# Altium schematic symbol library NewSpeedRadar_Board.SCHLIB: 94 symbols
Pins are listed as number, name and electrical type; pins without a type are passive.

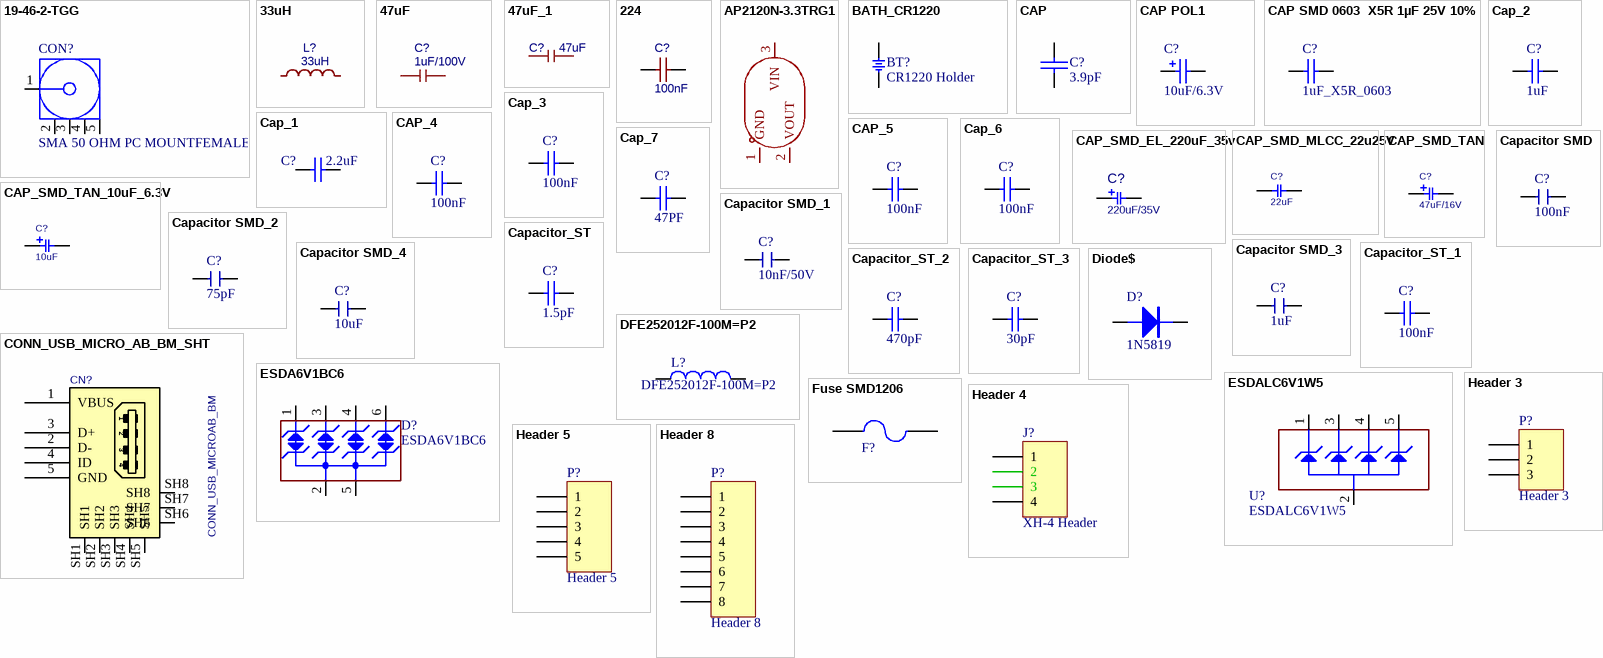
[diagram p0: symbols 19-46-2-TGG to Header 8]

## 19-46-2-TGG
designator CON?, comment SMA 50 OHM PC MOUNTFEMALE
CONN SMA JACK STR 50 OHM PCB; Manufacturer: Amphenol Connex; PartNumber: 132134; Foot print: Through Hole; Published: 12-Dec-2006; DatasheetVersion: rev.A-0, Jul-2002; PackageVersion: rev.A-0, Jul-2002; PackageReference: 19-46-2; Publisher: Altium Limited; PackageDescription: SMA Straight PCB Surface Mount Jack Receptacle; ComponentLink1Description: Manufacturer Link; ComponentLink1URL: http://www.chinnan.com.tw/
signal-integrity model RF Coaxial
footprint SMA
pins: 1 Signal "Signal Pin", 2 GND (power), 3 GND (power), 4 GND (power), 5 GND (power)

## 33uH
designator L?
Manufacturer: SHOU HAN(首韩); Manufacturer Part: CYH125-33UH; nameAlias: Inductance; Contributor: lcsc; Supplier: LCSC; Supplier Part: C2879698; JLCPCB Part Class: Extended Part; spicePre: L; spiceSymbolName: CYH125-33UH
footprint IND-SMD_L12.3-W12.3
pins: 1, 2

## 47uF
designator C?, comment 1uF/100V
Manufacturer Part: GRM32ER71A476ME15L; catid: 20; spicePre: C
footprint C1210
pins: 1, 2

## 47uF_1
designator C?, comment 47uF
Manufacturer Part: GRM32ER71A476ME15L; catid: 20; spicePre: C
footprint C1210
pins: 1, 2

## 224
designator C?, comment 100nF
Manufacturer: FH; Manufacturer Part: 0805F224M500NT; nameAlias: Capacitance; Supplier: LCSC; Supplier Part: C41051; JLCPCB Part Class: Extended Part; spicePre: C; spiceSymbolName: 0805F224M500NT_C41051
footprint C0805
pins: 1, 2

## AP2120N-3.3TRG1
designator U?  (value not drawn)
Manufacturer: DIODES(美台); Add into BOM: yes; Maximum Input Voltage: 6V; Output Voltage: 3.3V; MAX Output Current: 150mA; Power Supply Rejection Ratio (PSRR): 65dB@(1kHz); Dropout Voltage: 500mV@(150mA); standby current: 50uA; Output Polarity: Positive electrode; Number of Outputs: 1; Symbol: AP2120N-3.3TRG1; Device: AP2120N-3.3TRG1; LCSC Part Name: 输入6V 输出3.3V 150mA; Supplier Part: C156330; Manufacturer Part: AP2120N-3.3TRG1; Supplier Footprint: SOT-23; JLCPCB Part Class: Extended Part; Datasheet: https://atta.szlcsc.com/upload/public/pdf/source/20180307/C156330_15204110207831407988.pdf; Supplier: LCSC; Convert to PCB: yes; Operating Temperature: -40℃~+85℃
footprint SOT-23-3_L2.9-W1.3-P1.90-LS2.4-BR
3D model SOT-23-3P_L2.9-W1.3-H1.0-LS2.4-P0.95
pins: 1 GND, 2 VOUT, 3 VIN

## BATH_CR1220
designator BT?, comment CR1220 Holder
BATTERY HOLDER, CR1220; VALUE: BAT3volt; MANF_P#: -; .: http://www.chila.ir
footprint BTH1220 (COIN CELL BATTERY HOLDER 1220 12mm)
pins: 1, 2

## CAP
designator C?, comment 3.9pF
footprint 0603 (Footprint not found)
footprint C0603 (CHIP Capacitor, 1.6X0.8mm, 0603 OPTIMIZED)
pins: 1, 2
2 alternate drawings of the same symbol

## CAP POL1
designator C?, comment 10uF/6.3V
SMD Capacitor Tantalum 1UF 10V 10% 1206; Manufacturer: Vishay or Panasonic; Foot print: 1206 (3216 Metric); Published: 8-Jun-2000; LatestRevisionDate: 17-Jul-2002; LatestRevisionNote: Re-released for DXP Platform.; PackageReference: RB7.6-15; Publisher: Altium Limited; Value: 10uF/6.3V
simulation model CAP (Capacitor)
signal-integrity model Cap Pol
footprint TANTALUM-A
pins: 1, 2
1 alternate drawing of the same symbol

## CAP SMD 0603  X5R 1µF 25V 10%
designator C?, comment 1uF_X5R_0603
0603  X5R 1µF; Rated voltage: 25V; Tolerance: 10%; Manufacturer: *; Manufacturer P/N: *; Order code Farnell: 1288202RL; Value: 1µF; Power: *; Technology: X5R; Temperature  Factor: *; Temperature Max: +125°C; Temperature Min: -55°C; STS Code: *
footprint C0603 (CHIP Capacitor, 1.6X0.8mm, 0603 OPTIMIZED)
3D model 0603_0_0000_R (PCB3D Model)
simulation model Capacitor
signal-integrity model Capacitor
pins: 1, 2

## Cap_1
designator C?, comment 2.2uF
Value: 10nF; Published: 8-Jun-2000; Revision: July-2002: Re-released for DXP Platform.; Publisher: Altium Limited
simulation model CAP (Capacitor)
signal-integrity model Cap
footprint C0603 (CHIP Capacitor, 1.6X0.8mm, 0603 OPTIMIZED)
footprint 1206C (Footprint not found)
pins: 1, 2

## Cap_2
designator C?, comment 1uF
Value: 10nF; Published: 8-Jun-2000; Revision: July-2002: Re-released for DXP Platform.; Publisher: Altium Limited
simulation model CAP (Capacitor)
signal-integrity model Cap
footprint C0603 (CHIP Capacitor, 1.6X0.8mm, 0603 OPTIMIZED)
footprint 1206C (Footprint not found)
pins: 1, 2

## Cap_3
designator C?, comment 100nF
Value: 10nF; Published: 8-Jun-2000; Revision: July-2002: Re-released for DXP Platform.; Publisher: Altium Limited
simulation model CAP (Capacitor)
signal-integrity model Cap
footprint C0603 (CHIP Capacitor, 1.6X0.8mm, 0603 OPTIMIZED)
footprint 1206C (Footprint not found)
pins: 1, 2

## CAP_4
designator C?, comment 100nF
Published: 8-Jun-2000; Revision: July-2002: Re-released for DXP Platform.; Publisher: Altium Limited; Value: 100nF
footprint RAD-0.3 (Capacitor; 2 Leads)
simulation model CAP (Capacitor)
signal-integrity model Cap
footprint CAPR5.08-7.8X3.2
footprint CAPR2.54-5.1X3.2
footprint 0603
footprint 0603P
footprint 0603C
footprint C0603 (CHIP Capacitor, 1.6X0.8mm, 0603 OPTIMIZED)
pins: 1, 2

## CAP_5
designator C?, comment 100nF
Value: 100pF; Published: 8-Jun-2000; Revision: July-2002: Re-released for DXP Platform.; Publisher: Altium Limited
footprint RAD-0.3 (Capacitor; 2 Leads)
simulation model CAP (Capacitor)
signal-integrity model Cap
footprint CAPR5.08-7.8X3.2
footprint CAPR2.54-5.1X3.2
footprint 0603
footprint 0603P
footprint C0603 (CHIP Capacitor, 1.6X0.8mm, 0603 OPTIMIZED)
footprint 0402C
pins: 1, 2

## Cap_6
designator C?, comment 100nF
Ceramic Capacitor; Manufacturer: Vishay or Panasonic; Foot print: 0805 (2012 Metric); Published: 8-Jun-2000; LatestRevisionDate: 17-Jul-2002; LatestRevisionNote: Re-released for DXP Platform.; PackageReference: RAD-0.3; Publisher: Altium Limited; Value: 100nF
simulation model CAP (Capacitor)
signal-integrity model Cap
footprint CAP
footprint C0603 (CHIP Capacitor, 1.6X0.8mm, 0603 OPTIMIZED)
pins: 1, 2

## Cap_7
designator C?, comment 47PF
Chip Monolithic Ceramic Capacitor; SMD; Manufacturer: Murata Electronics North America; Manufacturer Part Number: GRM188R71C104KA01D; Current Footprint: 0603 (1608 Metric); Board Qty: 100; PCB Name: Main_PCB; Packing List: CL10B104KB8NNNC; ITEM/NO: 40; ComponentLink1Description: Datasheet; HelpURL: D:\HNA\Datasheet Documents\c02e.pdf; ComponentLink1URL: D:\HNA\Datasheet Documents\c02e.pdf; Mounting Type: Surface Mount; Supplier: NULL; Part Number: 47PF; Supplier Part Number: NULL; Pricing: NULL; Package / Case: 0603 (1608 Metric); Size / Dimension: NULL; Description1: Chip Monolithic Ceramic Capacitor; SMD
simulation model CAP (Capacitor)
signal-integrity model Cap
footprint CAP
footprint 0603
footprint C_0805 (2012 Metric) (SMD Capacitor)
footprint C0603 (CHIP Capacitor, 1.6X0.8mm, 0603 OPTIMIZED)
pins: 1, 2

## CAP_SMD_EL_220uF_35v
designator C?, comment 220uF/35V
CAP, SMD, ELEC,; MANF_P#: MANF_PART#; DESC: DESCRIPTION; DIST#: MOUSER; PARAM: 20%; PARAM2: 35v; VALUE: 220uF; PRICE: 10= -$; MANF: MANF; ASSEMBLY: ASSEMBLY
footprint C_EL_D8L10 (Electrolytic Cap, Size E, Size F, 8.3X10)
pins: 1, 2

## CAP_SMD_MLCC_22u25V
designator C?, comment 22uF
CAP, MLCC, X5R 22uF 25V 20% 1206; PARAM: X5R, 20%; MANF_P#: TMK316BBJ226ML-T; MANF: Taiyo Yuden; DESC: CAP, MLCC, 22uF, 25V, X5R,  20%, 1206; PARAM2: 25V; PRICE: 0.572$; VALUE: 22uF
footprint C1206E (CHIP Capacitor, 3.2X1.6mm, 1206, EXPANDED PAD)
pins: 1, 2

## CAP_SMD_TAN
designator C?, comment 47uF/16V
CAP, SMD, TAN; PARAM: 20%, 300mOhm, -55~105oC; MANF: VISHAY; MANF_P#: T55A106M6R3C0300; PARAM2: 6.3V; VALUE: -uF; PRICE: 0.46$
footprint C_TN_3528 (CAPACITOR, TAN B, TAN H, TAN T, TAN M, 3528P, 1210P, 3.5X2.8mm)
footprint C_TN_3216 (CAPACITOR, TAN A, 1206P, 3.2x1.6mm)
footprint C_TN_2012 (CAPACITOR, TAN N, TAN P, TAN R, 0805P, 2X1.3mm)
footprint C_TN_3216_BLK (CAPACITOR, TAN A, 3.2x1.6mm, BLACK)
footprint C_TN_3528_BLK (CAPACITOR, TAN B, 3.5X2.8mm, BLACK)
footprint C_TN_6032 (CAPACITOR, TAN C, TAN F, TAN U, TAN L, 6032P, 6.0X3.2mm)
footprint C_TN_6032_BLK (CAPACITOR, TAN C, 6.0X3.2mm, BLACK)
footprint C_TN_7343 (CAPACITOR, TAN D, TAN E, TAN Y, TAN X, 7343P, 7.3X4.3mm)
footprint C_TN_7343_31 (CAPACITOR, TAN D, TAN E, TAN Y, TAN X, 7343P, 7.3X4.3mm)
footprint C_TN_7343_31_BLK (CAPACITOR, TAN D, 7.3X4.3mm, BLACK)
footprint C_TN_7361 (CAPACITOR, TAN V, 2924, 7361, 7.3X6.1mm)
footprint C_TN_6032 (CAPACITOR, TAN C, TAN F, TAN U, TAN L, 6032P, 6.0X3.2mm)
pins: 1, 2

## CAP_SMD_TAN_10uF_6.3V
designator C?, comment 10uF
CAP, SMD, TAN; PARAM: 20%, 300mOhm, -55~105oC; MANF: VISHAY; MANF_P#: T55A106M6R3C0300; PARAM2: 6.3V; PRICE: 0.46$; VALUE: 10uF
footprint C_TN_3216 (CAPACITOR, TAN A, 1206P, 3.2x1.6mm)
pins: 1, 2

## Capacitor SMD
designator C?, comment 100nF
Value: 100nF
footprint 0402 Capacitor
footprint 0805 Capacitor
footprint 0805 Capacitor
footprint 1206 Capacitor
footprint C0603E (CHIP Capacitor, 1.6X0.8mm, EXPANDED PAD)
pins: 1, 2

## Capacitor SMD_1
designator C?, comment 10nF/50V
Value: 10nF/50V
footprint 0402 Capacitor
footprint 0805 Capacitor
footprint 0805 Capacitor
footprint 1206 Capacitor
footprint C0603E (CHIP Capacitor, 1.6X0.8mm, EXPANDED PAD)
pins: 1, 2

## Capacitor SMD_2
designator C?, comment 75pF
Value: 75pF
footprint 0402 Capacitor
footprint 0805 Capacitor
footprint 0805 Capacitor
footprint 1206 Capacitor
footprint C0603E (CHIP Capacitor, 1.6X0.8mm, EXPANDED PAD)
pins: 1, 2

## Capacitor SMD_3
designator C?, comment 1uF
Value: 1uF
footprint 0402 Capacitor
footprint 0805 Capacitor
footprint 0805 Capacitor
footprint 1206 Capacitor
footprint C0603E (CHIP Capacitor, 1.6X0.8mm, EXPANDED PAD)
pins: 1, 2

## Capacitor SMD_4
designator C?, comment 10uF
Value: 10uF
footprint 0402 Capacitor
footprint 0805 Capacitor
footprint 0805 Capacitor
footprint 1206 Capacitor
footprint C0603E (CHIP Capacitor, 1.6X0.8mm, EXPANDED PAD)
pins: 1, 2

## Capacitor_ST
designator C?, comment 1.5pF
Value: 100nF; Revision: July-2002: Re-released for DXP Platform.
simulation model CAP (Capacitor)
signal-integrity model Cap
footprint C0603 (CHIP Capacitor, 1.6X0.8mm, 0603 OPTIMIZED)
footprint 0402C
footprint 0805C (Footprint not found)
pins: 1, 2

## Capacitor_ST_1
designator C?, comment 100nF
Revision: July-2002: Re-released for DXP Platform.; Value: 100nF
simulation model CAP (Capacitor)
signal-integrity model Cap
footprint C0603 (CHIP Capacitor, 1.6X0.8mm, 0603 OPTIMIZED)
footprint 0402C
footprint 0805C (Footprint not found)
pins: 1, 2

## Capacitor_ST_2
designator C?, comment 470pF
Value: 100nF; Revision: July-2002: Re-released for DXP Platform.
simulation model CAP (Capacitor)
signal-integrity model Cap
footprint C0603 (CHIP Capacitor, 1.6X0.8mm, 0603 OPTIMIZED)
footprint 0402C
footprint 0805C (Footprint not found)
pins: 1, 2

## Capacitor_ST_3
designator C?, comment 30pF
Value: 100nF; Revision: July-2002: Re-released for DXP Platform.
simulation model CAP (Capacitor)
signal-integrity model Cap
footprint C0603 (CHIP Capacitor, 1.6X0.8mm, 0603 OPTIMIZED)
footprint 0402C
footprint 0805C (Footprint not found)
pins: 1, 2

## CONN_USB_MICRO_AB_BM_SHT
designator CN?, comment CONN_USB_MICROAB_BM
CONN, USB, MICRO AB, R/A, SMD, BOTTOM MOUNT; MANF_P#: 47589-0001; MANF: MOLEX; PARAM2: 30VAC; PARAM: 1.8A, -20~85oC; MANF_P#2: HIROSE ZX62D-AB-5P8; PRICE: 0.75$; VALUE: CONN_USB_MICROAB_BM
footprint USB_MICRO_AB_BM_SHT (CONN, USB Micro AB - Standard (Bottom mount), Shell THD, G610)
pins: 1 VBUS (power), 2 D-, 3 D+, 4 ID (power), 5 GND (power), SH1, SH2, SH3, SH4, SH5, SH6, SH7, SH8

## DFE252012F-100M=P2
designator L?
Inductor with Inductance: 10uH Tol. +/-20%, Package: 1008 (2520); MF: Murata Electronics; SnapEDA_Link: https://www.snapeda.com/parts/DFE252012F-100M=P2/Murata%20Electronics%20North%20America/view-part/1498782/?ref=snap; Value: *; Digi-Key_Part_Number: 490-13050-1-ND; Mouser-Purchase-URL: https://snapeda.com/shop?store=Mouser&id=1498782; MP: DFE252012F-100M=P2; DigiKey-Purchase-URL: https://snapeda.com/shop?store=DigiKey&id=1498782; Package: 2520 Murata; Check_prices: https://www.snapeda.com/parts/DFE252012F-100M=P2/Murata%20Electronics%20North%20America/view-part/1498782/?ref=eda
footprint INDC2520X120N
pins: 1, 2

## Diode$
designator D?, comment 1N5819
footprint $DO-15A
footprint $DO-15B
footprint $DO-35
footprint $DO-41A
footprint $DO-41B
footprint $DO-201A
footprint $DO-201B
footprint $SMD-d0805
footprint $SMD-DIODE-SOT23
footprint $SMD-DO214AC
footprint $DO-41C
footprint $SMD-Diode-mini MELF
pins: A, K
2 alternate drawings of the same symbol

## ESDA6V1BC6
designator D?
4-line ESD protection; Manuf_1: STM; Manuf_Part_1: ESDA5V3L; Ref St: 9179034; Provided: ST; ECCN_US/EU: EAR99/NEC; Distrib: ST; Order: ESDA5V3L; Ordered by: STM
footprint SOT95P280X145-6N
footprint uQFN (Footprint not found)
pins: 1 IO1, 2 IO2, 3 GND, 4 IO3, 5 IO4, 6 NC

## ESDALC6V1W5
designator U?
Dual Transil array for ESD protection; Manuf_1: STM; Manuf_Part_1: ESDA5V3L; Ref St: 9179034; Provided: ST; ECCN_US/EU: EAR99/NEC; Distrib: ST; Order: ESDA5V3L; Ordered by: STM
footprint SOT323-5L
footprint SOT65P210X110-5N
pins: 1 IO1, 2 GND, 3 IO2, 4 IO3, 5 IO4

## Fuse SMD1206
designator F?, comment F=1.0 A  (value not drawn)
SMD Fuses 1206; Designer: Abbas Basereh; Desc.: SMD Fuses 1206; Data: 16-12-2016
footprint 1206 FUSE (Fast Acting Smd 1206 non-Resettable Fuse Chip For Pcb Board-Design:Abbas Basereh)
pins: 1, 2

## Header 3
designator P?
Header, 3-Pin; LatestRevisionDate: 17-Jul-2002; LatestRevisionNote: Re-released for DXP Platform.; Publisher: Altium Limited
footprint xh-3
signal-integrity model Connector
pins: 1, 2, 3

## Header 4
designator J?, comment XH-4 Header
CONN HEADER 4POS 2.54MM VERT T/H MALE; Manufacturer: TE Connectivity; Current Footprint: THD-4P; Assembly Status: A; Connector NAME: Camera; PCB Project: FL3 Controller
signal-integrity model Connector
footprint XH-4
pins: 1, 2, 3, 4

## Header 5
designator P?
Header, 5-Pin; LatestRevisionDate: 17-Jul-2002; LatestRevisionNote: Re-released for DXP Platform.; Publisher: Altium Limited
footprint HDR1X5 (Connector; Header; 5 Position)
signal-integrity model Connector
pins: 1, 2, 3, 4, 5

## Header 8
designator P?
Header, 8-Pin; LatestRevisionDate: 17-Jul-2002; LatestRevisionNote: Re-released for DXP Platform.; Publisher: Altium Limited
footprint HDR1X8 (Connector; Header; 8 Position)
signal-integrity model Connector
pins: 1, 2, 3, 4, 5, 6, 7, 8

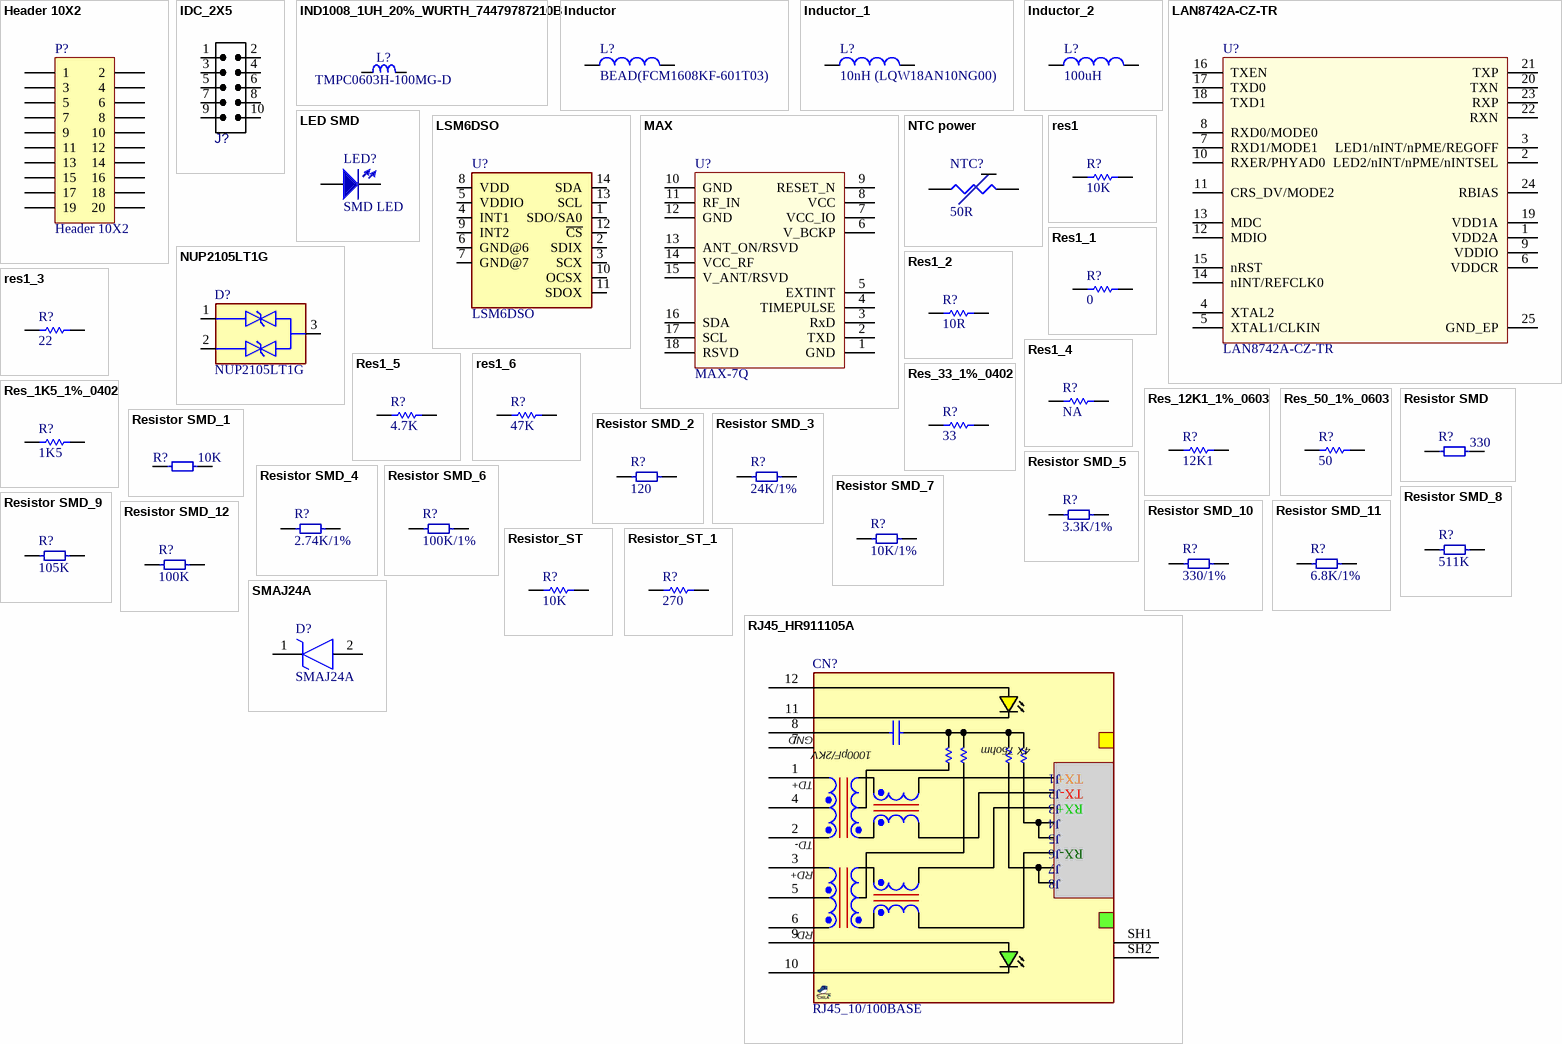
[diagram p1: symbols Header 10X2 to SMAJ24A]

## Header 10X2
designator P?
Header, 10-Pin, Dual row; LatestRevisionDate: 17-Jul-2002; LatestRevisionNote: Re-released for DXP Platform.; Publisher: Altium Limited
footprint HDR2X10 (Connector; Header; 10x2 Position)
signal-integrity model Connector
pins: 1, 2, 3, 4, 5, 6, 7, 8, 9, 10, 11, 12, 13, 14, 15, 16, 17, 18, 19, 20

## IDC_2X5
designator J?  (value not drawn)
CONN, IDC, Male, pitch: 2.54mm, 10POS; VALUE: IDC_2X5
footprint IDC_2X5 (IDC, HEADER BOX 2X5, 10p, 2.54mm pitch)
pins: 1, 2, 3, 4, 5, 6, 7, 8, 9, 10

## IND1008_1UH_20%_WURTH_74479787210B
designator L?, comment TMPC0603H-100MG-D
Inductor; Part Number: IND1008_1UH_20%_WURTH_74479787210B; Part Description: Power Multilayer Inductor (WE-PMI Series); Manufacturer: WURTH ELEKTRONIK; Manufacturer Part Number: 74479787210B; Power: 1.95A; Resistance: 0.06R; Tolerance: ±20%; Component Kind: Standard; Component Type: Standard; Footprint: INDC2620X100N; Pin Count: 2; Value: TMPC0603H-100MG-D; Case: 1008; Mounted: Yes; Socket: No; SMD: Yes; Sense: No; ComponentHeight: 1mm; HelpURL: \\cern.ch\dfs\Applications\Altium\Datasheets\IND_WURTH_WE-PMI_74479787210B.pdf; Author: CERN DEM JLC; CreateDate: 10/1/2014; LatestRevisionDate: 10/1/2014
footprint INDC2620X100N
footprint IND-SMD_L7.3-W6.6
pins: 1, 2

## Inductor
designator L?, comment BEAD(FCM1608KF-601T03)
Inductor; Value: 100uH; Published: 8-Jun-2000; Revision: July-2002: Re-released for DXP Platform.; Publisher: Altium Limited
footprint 0603 (Footprint not found)
footprint 0603C
footprint L0603E (INDUCTOR, FERRITE BEAD, 0603, 1.6X0.8mm, EXPANDED PAD)
pins: 1, 2

## Inductor_1
designator L?, comment 10nH (LQW18AN10NG00)
FIXED IND 10NH 300MA 0.10 OHM; Manufacturer: Murata Electronics North America; Manufacturer Part Number: 10nH/1%; Current Footprint: 0603 (1608 Metric); Board Qty: 100; PCB Name: Main_PCB; ITEM/NO: 16; Package / Case: 0603 (1608 Metric); Part Number: 10nH (LQW18AN10NG00); Pricing: 1=0.18, 10=0.167, 25=0.1504, 50=0.1302, 100=0.1169, 250=0.10856, 500=0.1002, 750=0.09519, 1000=0.08684 (USD); Size / Dimension: null; Supplier: null; Supplier Part Number: null
simulation model INDUCTOR (Inductor)
signal-integrity model Inductor
footprint L_0805
footprint L_0603 (1608 Metric)
pins: 1, 2

## Inductor_2
designator L?, comment 100uH
Inductor; Published: 8-Jun-2000; Revision: July-2002: Re-released for DXP Platform.; Publisher: Altium Limited; Value: 100uH
footprint 0603 (Footprint not found)
footprint 0603C
footprint L0603E (INDUCTOR, FERRITE BEAD, 0603, 1.6X0.8mm, EXPANDED PAD)
pins: 1, 2

## LAN8742A-CZ-TR
designator U?
LAN8742A-CZ-TR - Small Footprint RMII 10/100 Ethernet, Transceiver with HP Auto-MDIX and flexPWR Technology SQFN-24; Manuf_1: MICROCHIP; Order: LAN8742A-CZ-TR; Manuf_Part_1: LAN8742A-CZ-TR; Distrib: MICROCHIP
footprint QFN50P400X400X100-25N-D
pins: 1 VDD2A, 2 LED2/nINT/nPME/nINTSEL, 3 LED1/nINT/nPME/REGOFF, 4 XTAL2, 5 XTAL1/CLKIN, 6 VDDCR, 7 RXD1/MODE1, 8 RXD0/MODE0, 9 VDDIO, 10 RXER/PHYAD0, 11 CRS_DV/MODE2, 12 MDIO, 13 MDC, 14 nINT/REFCLK0, 15 nRST, 16 TXEN, 17 TXD0, 18 TXD1, 19 VDD1A, 20 TXN, 21 TXP, 22 RXN, 23 RXP, 24 RBIAS, 25 GND_EP

## LED SMD
designator LED?, comment SMD LED
footprint LED_1206 GRE
footprint LED_1206 RED
footprint LED_1206 YEL
footprint LED SMD 1W
footprint LED_0603 B
footprint LED_0603 G
footprint LED_0603 R
footprint LED_0603 W
footprint LED_0603 Y
footprint LED_0805 G
footprint LED_0805 Y
footprint LED GREEN 3MM R
footprint LED RED 3MM R
footprint LED RED 3MM S
footprint LED 4-mm Oval B
footprint LED 4-mm Oval G
footprint LED 4-mm Oval R
footprint LED 15X15mm R
footprint LED 5mm
footprint LED 1 X  3mm GREEN RIGHT ANGLE
footprint LED 1 X  3mm RED RIGHT ANGLE
footprint LED 1 X  3mm YELLOW RIGHT ANGLE
pins: 1 A, 2 K

## LSM6DSO
designator U?
SPARKFUN 6 DEGREES OF FREEDOM BR; MF: STMicroelectronics; SnapEDA_Link: https://www.snapeda.com/parts/LSM6DSO/STMicroelectronics/view-part/?ref=snap; Purchase-URL: https://pricing.snapeda.com/search/part/LSM6DSO/?ref=eda; Price: None; Availability: In Stock; Package: None; Check_prices: https://www.snapeda.com/parts/LSM6DSO/STMicroelectronics/view-part/?ref=eda; Value: *; MP: LSM6DSO
footprint LGA-14_L3.0-W2.5-P0.50-TL
pins: 1 SDO/SA0 (io), 2 SDIX (io), 3 SCX (io), 4 INT1 (io), 5 VDDIO (io), 6 GND@6 (io), 7 GND@7 (io), 8 VDD (io), 9 INT2 (io), 10 OCSX (io), 11 SDOX (io), 12 ~{CS} (io), 13 SCL (io), 14 SDA (io)

## MAX
designator U?, comment MAX-7Q
GPS chip module MAX-7Q; Manufacturer-1: ShenZhen Tifull Technology Ltd.; Manufacturer Part Number-1: TF1097U7M3; Part Number: EPP0910; Manufacturer: NULL; Current Footprint: SMD; Board Qty: 100; PCB Name: Main_PCB; ITEM/NO: 117; Package / Case: SMD; Part Number-1: MAX-7Q; Pricing: 1=12.00000, 100=12.00000 (USD); Size / Dimension: NULL; Supplier: Octopart; Supplier Part Number: Seeed Studio - 317050009; HelpURL: D:\HNA\Datasheet Documents\u-blox-MAX-7_DataSheet_(GPS.G7-HW-12012)_2.pdf; Part Number-2: TF1097U7M3; Manufacturer Part Number: NULL
footprint MAX
pins: 1 GND, 2 TXD, 3 RxD, 4 TIMEPULSE, 5 EXTINT, 6 V_BCKP, 7 VCC_IO, 8 VCC, 9 RESET_N, 10 GND, 11 RF_IN, 12 GND, 13 ANT_ON/RSVD, 14 VCC_RF, 15 V_ANT/RSVD, 16 SDA, 17 SCL, 18 RSVD

## NTC power
designator NTC?, comment 50R
NTC , 50R-13mm disc type; Device Code: 143161
footprint HDR1X2 (Connector; Header; 2 Position)
footprint $cap-ceramic1
pins: 1, 2
2 alternate drawings of the same symbol

## NUP2105LT1G
designator D?
Dual Bi-Directional TVS Diode 350W 3-Pin SOT-23 | ON Semiconductor NUP2105LT1G; SnapEDA_Link: https://www.snapeda.com/parts/NUP2105LT1G/Onsemi/view-part/?ref=snap; Package: SOT-23-3 ON Semiconductor; Value: *; MF: ON Semiconductor; MP: NUP2105LT1G; Check_prices: https://www.snapeda.com/parts/NUP2105LT1G/Onsemi/view-part/?ref=eda
footprint SOT95P237X111-3N
pins: 1, 2, 3

## res1
designator R?, comment 10K
Value: 1K; Published: 8-Jun-2000; Revision: July-2002: Re-released for DXP Platform.; Publisher: Altium Limited
footprint AXIAL-0.3 (Resistor; 2 Leads)
simulation model RESISTOR (Resistor)
signal-integrity model Res
footprint 0603
footprint R0603 (CHIP Resistor 1/10 WATT, 1.6x0.8mm, 0603, OPTIMIZED)
footprint R0603 (CHIP Resistor 1/10 WATT, 1.6x0.8mm, 0603, OPTIMIZED)
pins: 1, 2
1 alternate drawing of the same symbol

## Res1_1
designator R?, comment 0
Value: 1K; Published: 8-Jun-2000; Revision: July-2002: Re-released for DXP Platform.; Publisher: Altium Limited
footprint AXIAL-0.3 (Resistor; 2 Leads)
simulation model RESISTOR (Resistor)
signal-integrity model Res
footprint 0603
footprint 0805
footprint R0603 (CHIP Resistor 1/10 WATT, 1.6x0.8mm, 0603, OPTIMIZED)
pins: 1, 2
1 alternate drawing of the same symbol

## Res1_2
designator R?, comment 10R
Resistor: thick film; SMD; Manufacturer: Yageo; Manufacturer Part Number: null; Current Footprint: 0603 (1608 Metric); Board Qty: 100; PCB Name: Main_PCB; Packing List: 0603F1002T5E; ITEM/NO: 131; ComponentLink1Description: Datasheet; HelpURL: D:\HNA\Datasheet Documents\PYu-RC_Group_51_RoHS_L_0.pdf; ComponentLink1URL: D:\HNA\Datasheet Documents\PYu-RC_Group_51_RoHS_L_0.pdf; Mounting Type: Surface Mount; Supplier: null; Part Number: 10R; Supplier Part Number: null; Pricing: 1=0.1, 10=0.029, 50=0.0162, 100=0.0123, 250=0.00912, 500=0.00672, 1000=0.00448, 2500=0.00378 (USD); Description1: Resistor: thick film; SMD; Package / Case: 0603 (1608 Metric); Size / Dimension: null
simulation model RESISTOR (Resistor)
signal-integrity model Res
footprint 0805
footprint 0603
footprint R_0603
footprint R_0805 (2012 Metric) (SMD Resistor)
footprint R_0603 (1608 Metric)
footprint R_0805
footprint R0603 (CHIP Resistor 1/10 WATT, 1.6x0.8mm, 0603, OPTIMIZED)
pins: 1, 2

## res1_3
designator R?, comment 22
Value: 1K; Published: 8-Jun-2000; Revision: July-2002: Re-released for DXP Platform.; Publisher: Altium Limited
footprint AXIAL-0.3 (Resistor; 2 Leads)
simulation model RESISTOR (Resistor)
signal-integrity model Res
footprint 0603
footprint R0603 (CHIP Resistor 1/10 WATT, 1.6x0.8mm, 0603, OPTIMIZED)
footprint R0603 (CHIP Resistor 1/10 WATT, 1.6x0.8mm, 0603, OPTIMIZED)
pins: 1, 2
1 alternate drawing of the same symbol

## Res1_4
designator R?, comment NA  (no BOM)
Value: 1K; Published: 8-Jun-2000; Revision: July-2002: Re-released for DXP Platform.; Publisher: Altium Limited
footprint AXIAL-0.3 (Resistor; 2 Leads)
simulation model RESISTOR (Resistor)
signal-integrity model Res
footprint 0603
footprint R0603 (CHIP Resistor 1/10 WATT, 1.6x0.8mm, 0603, OPTIMIZED)
footprint R0603 (CHIP Resistor 1/10 WATT, 1.6x0.8mm, 0603, OPTIMIZED)
pins: 1, 2
1 alternate drawing of the same symbol

## Res1_5
designator R?, comment 4.7K
Value: 1K; Published: 8-Jun-2000; Revision: July-2002: Re-released for DXP Platform.; Publisher: Altium Limited
footprint AXIAL-0.3 (Resistor; 2 Leads)
simulation model RESISTOR (Resistor)
signal-integrity model Res
footprint 0603
footprint R0603 (CHIP Resistor 1/10 WATT, 1.6x0.8mm, 0603, OPTIMIZED)
footprint R0603 (CHIP Resistor 1/10 WATT, 1.6x0.8mm, 0603, OPTIMIZED)
pins: 1, 2
1 alternate drawing of the same symbol

## res1_6
designator R?, comment 47K
Value: 1K; Published: 8-Jun-2000; Revision: July-2002: Re-released for DXP Platform.; Publisher: Altium Limited
footprint AXIAL-0.3 (Resistor; 2 Leads)
footprint 0805
footprint R0603 (CHIP Resistor 1/10 WATT, 1.6x0.8mm, 0603, OPTIMIZED)
footprint R0603 (CHIP Resistor 1/10 WATT, 1.6x0.8mm, 0603, OPTIMIZED)
footprint R0603 (CHIP Resistor 1/10 WATT, 1.6x0.8mm, 0603, OPTIMIZED)
pins: 1, 2
1 alternate drawing of the same symbol

## Res_1K5_1%_0402
designator R?, comment 1K5
Manuf_Part_1: RC0402FR-071K5L; Manuf_1: YAGEO; Value: 1K5; Order: RC0402FR-071K5L; ECCN_US/EU: n/a; Distrib: FARNELL
footprint R0603E (CHIP Resistor 1/10 WATT, 1.6x0.8mm, 0603, EXPANDED PAD)
footprint R0603 (CHIP Resistor 1/10 WATT, 1.6x0.8mm, 0603, OPTIMIZED)
footprint 0805R (Footprint not found)
footprint 0603R-GS
footprint 1206R (Footprint not found)
pins: 1, 2

## Res_12K1_1%_0603
designator R?, comment 12K1
Manuf_Part_1: MCT 0603-50 1% P5 12K1; Manuf_1: VISHAY; Order: 2325243; Value: 12K1; ECCN_US/EU: n/a; Distrib: FARNELL
footprint R0603 (CHIP Resistor 1/10 WATT, 1.6x0.8mm, 0603, OPTIMIZED)
footprint 0603R-GS
pins: 1, 2

## Res_33_1%_0402
designator R?, comment 33
Manuf_Part_1: RC0402FR-0733RL; Manuf_1: YAGEO; Value: 33; Order: *; ECCN_US/EU: n/a; Distrib: FARNELL
footprint R0603E (CHIP Resistor 1/10 WATT, 1.6x0.8mm, 0603, EXPANDED PAD)
footprint R0603 (CHIP Resistor 1/10 WATT, 1.6x0.8mm, 0603, OPTIMIZED)
footprint 0805R (Footprint not found)
footprint 0603R-GS
footprint 1206R (Footprint not found)
pins: 1, 2

## Res_50_1%_0603
designator R?, comment 50
Manuf_Part_1: RC0402FR-0750RL; Manuf_1: YAGEO; Value: 50; Order: *; ECCN_US/EU: n/a; Distrib: FARNELL
footprint R0603E (CHIP Resistor 1/10 WATT, 1.6x0.8mm, 0603, EXPANDED PAD)
footprint R0603 (CHIP Resistor 1/10 WATT, 1.6x0.8mm, 0603, OPTIMIZED)
footprint 0805R (Footprint not found)
footprint 0603R-GS
footprint 1206R (Footprint not found)
pins: 1, 2

## Resistor SMD
designator R?, comment 330
Value: 470
footprint 0402 Resistor
footprint 0603 Resistor
footprint 0603M
footprint 1206 Resistor
footprint 0805 Resistor
pins: 1, 2

## Resistor SMD_1
designator R?, comment 10K
Value: 10K
footprint 0402 Resistor
footprint 0603 Resistor
footprint 0805 Resistor
footprint 1206 Resistor
footprint R0603E (CHIP Resistor 1/10 WATT, 1.6x0.8mm, 0603, EXPANDED PAD)
pins: 1, 2

## Resistor SMD_2
designator R?, comment 120
Value: 120
footprint 0402 Resistor
footprint 0603 Resistor
footprint 0805 Resistor
footprint 1206 Resistor
footprint R0603E (CHIP Resistor 1/10 WATT, 1.6x0.8mm, 0603, EXPANDED PAD)
pins: 1, 2

## Resistor SMD_3
designator R?, comment 24K/1%
Value: 100K
footprint 0402 Resistor
footprint 0603 Resistor
footprint 0805 Resistor
footprint 1206 Resistor
footprint R0603E (CHIP Resistor 1/10 WATT, 1.6x0.8mm, 0603, EXPANDED PAD)
pins: 1, 2

## Resistor SMD_4
designator R?, comment 2.74K/1%
Value: 100K
footprint 0402 Resistor
footprint 0603 Resistor
footprint 0805 Resistor
footprint 1206 Resistor
footprint R0603E (CHIP Resistor 1/10 WATT, 1.6x0.8mm, 0603, EXPANDED PAD)
pins: 1, 2

## Resistor SMD_5
designator R?, comment 3.3K/1%
Value: 3.3K/1%
footprint 0402 Resistor
footprint 0603 Resistor
footprint 0805 Resistor
footprint 1206 Resistor
footprint R0603E (CHIP Resistor 1/10 WATT, 1.6x0.8mm, 0603, EXPANDED PAD)
pins: 1, 2

## Resistor SMD_6
designator R?, comment 100K/1%
Value: 100K/1%
footprint 0402 Resistor
footprint 0603 Resistor
footprint 0805 Resistor
footprint 1206 Resistor
footprint R0603E (CHIP Resistor 1/10 WATT, 1.6x0.8mm, 0603, EXPANDED PAD)
pins: 1, 2

## Resistor SMD_7
designator R?, comment 10K/1%
Value: 10K/1%
footprint 0402 Resistor
footprint 0603 Resistor
footprint 0805 Resistor
footprint 1206 Resistor
footprint R0603E (CHIP Resistor 1/10 WATT, 1.6x0.8mm, 0603, EXPANDED PAD)
pins: 1, 2

## Resistor SMD_8
designator R?, comment 511K
Value: 511K
footprint 0402 Resistor
footprint 0603 Resistor
footprint R0402E (CHIP Resistor 1/16 WATT, 1.0X0.5mm, EXPANDED PAD)
footprint 1206 Resistor
footprint R0603 (CHIP Resistor 1/10 WATT, 1.6x0.8mm, 0603, OPTIMIZED)
footprint R0603E (CHIP Resistor 1/10 WATT, 1.6x0.8mm, 0603, EXPANDED PAD)
pins: 1, 2

## Resistor SMD_9
designator R?, comment 105K
Value: 105K
footprint 0402 Resistor
footprint 0603 Resistor
footprint R0402E (CHIP Resistor 1/16 WATT, 1.0X0.5mm, EXPANDED PAD)
footprint 1206 Resistor
footprint R0603 (CHIP Resistor 1/10 WATT, 1.6x0.8mm, 0603, OPTIMIZED)
footprint R0603E (CHIP Resistor 1/10 WATT, 1.6x0.8mm, 0603, EXPANDED PAD)
pins: 1, 2

## Resistor SMD_10
designator R?, comment 330/1%
Value: 330/1%
footprint 0402 Resistor
footprint 0603 Resistor
footprint 0805 Resistor
footprint 1206 Resistor
footprint R0603E (CHIP Resistor 1/10 WATT, 1.6x0.8mm, 0603, EXPANDED PAD)
pins: 1, 2

## Resistor SMD_11
designator R?, comment 6.8K/1%
Value: 6.8K/1%
footprint 0402 Resistor
footprint 0603 Resistor
footprint 0805 Resistor
footprint 1206 Resistor
footprint R0603E (CHIP Resistor 1/10 WATT, 1.6x0.8mm, 0603, EXPANDED PAD)
pins: 1, 2

## Resistor SMD_12
designator R?, comment 100K
Value: 100K
footprint 0402 Resistor
footprint 0603 Resistor
footprint R0402E (CHIP Resistor 1/16 WATT, 1.0X0.5mm, EXPANDED PAD)
footprint 1206 Resistor
footprint R0603 (CHIP Resistor 1/10 WATT, 1.6x0.8mm, 0603, OPTIMIZED)
footprint R0603E (CHIP Resistor 1/10 WATT, 1.6x0.8mm, 0603, EXPANDED PAD)
pins: 1, 2

## Resistor_ST
designator R?, comment 10K
Value: 10K
footprint R0603E (CHIP Resistor 1/10 WATT, 1.6x0.8mm, 0603, EXPANDED PAD)
footprint R0603 (CHIP Resistor 1/10 WATT, 1.6x0.8mm, 0603, OPTIMIZED)
footprint 0805R (Footprint not found)
footprint 0603R-GS
pins: 1, 2

## Resistor_ST_1
designator R?, comment 270
Value: 10K
footprint R0603E (CHIP Resistor 1/10 WATT, 1.6x0.8mm, 0603, EXPANDED PAD)
footprint R0603 (CHIP Resistor 1/10 WATT, 1.6x0.8mm, 0603, OPTIMIZED)
footprint 0805R (Footprint not found)
footprint 0603R-GS
pins: 1, 2

## RJ45_HR911105A
designator CN?, comment value RJ45_10/100BASE  (hidden comment: HR911105A)
RJ45, 10/100BASE, G/Y LED; MANF: Hanrun; MANF_P#: HR911105A; PARAM2: 10/100BASE, G/Y LED
footprint RJ45_8M_HR911105A (RJ45, 10/100BASE, HR911105A WITH G/Y LED)
pins: 1 TD+, 2 TD-, 3 RD+, 4 TCT, 5 RCT, 6 RD-, 7 NC, 8 CHSGND, 9 GLED+, 10 GLED-, 11 YLED-, 12 YLED+, SH1, SH2
text: GND; 4X 75ohm; 1000pF/2KV; J1; TX+; J2; TX-; J3; RX+; J4; J5; J6; RX-; J7; J8

## SMAJ24A
designator D?
TVS Diode (Uni-directional); Manufacturer_Name: LITTELFUSE; Datasheet Link: https://componentsearchengine.com/Datasheets/2/SMAJ24A.pdf; Height: 2.29mm; Manufacturer_Part_Number: SMAJ24A; Mouser Part Number: 576-SMAJ24A; Mouser Price/Stock: https://www.mouser.co.uk/ProductDetail/Littelfuse/SMAJ24A?qs=HR2RnyOI4E78ZevQKM2hdA%3D%3D; Arrow Part Number: SMAJ24A; Arrow Price/Stock: https://www.arrow.com/en/products/smaj24a/littelfuse?region=nac
footprint DIOM5026X229N
pins: 1 K, 2 A

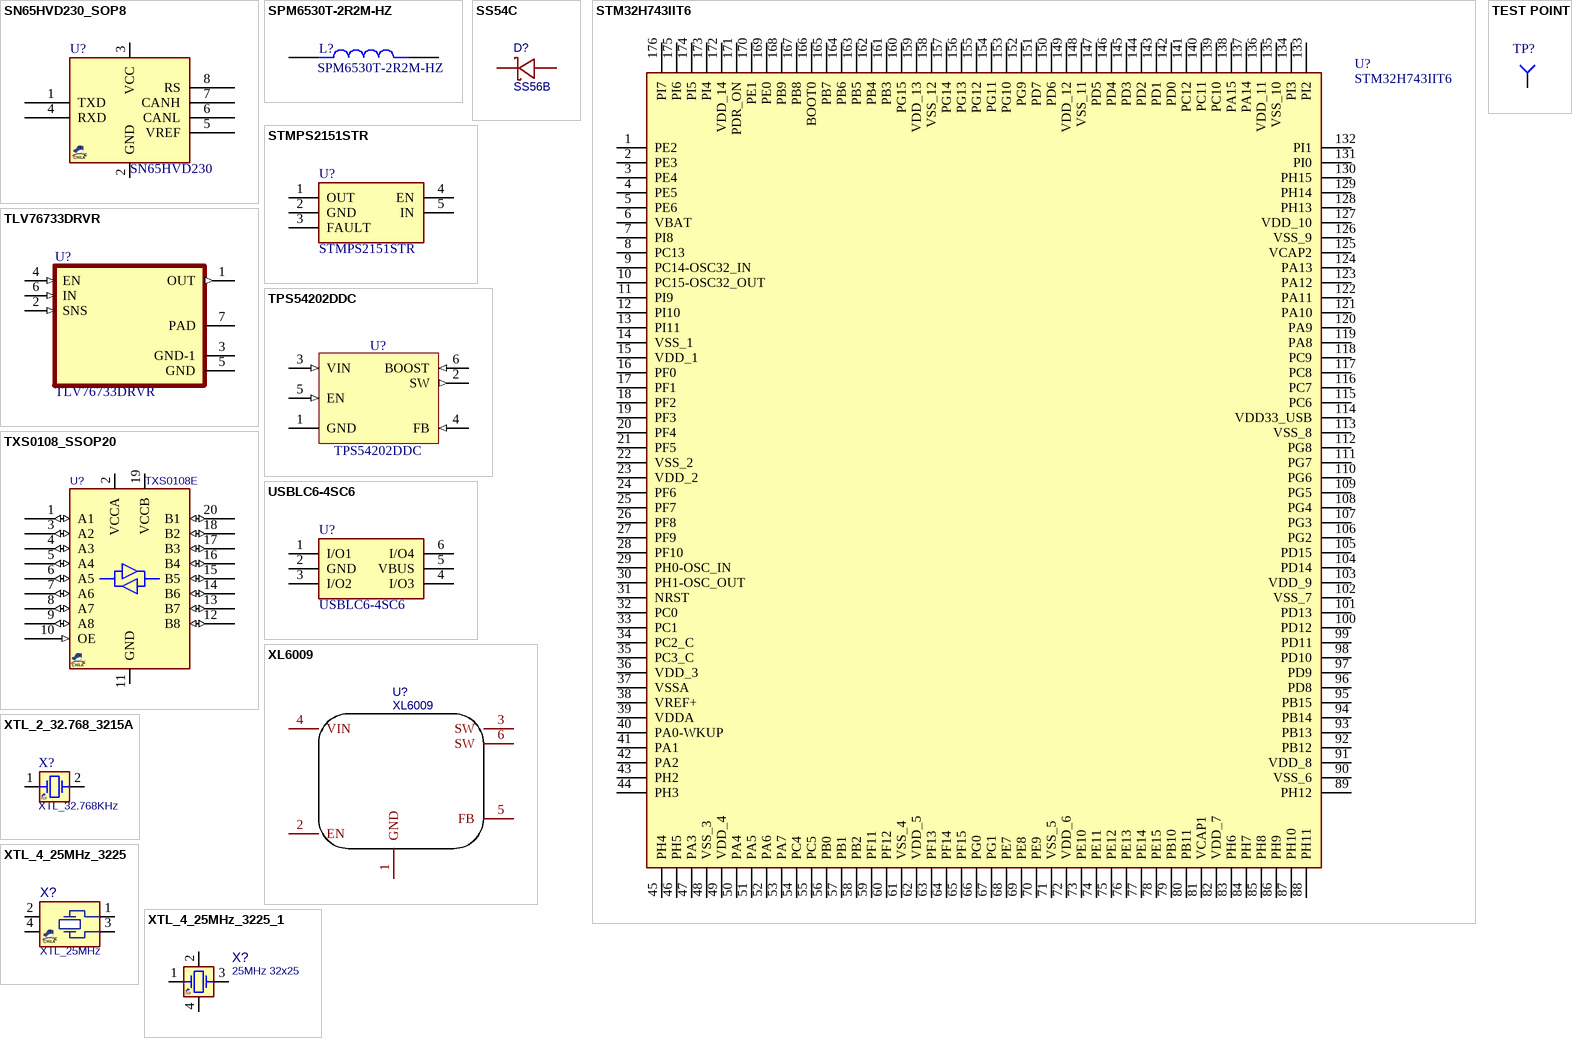
[diagram p2: symbols SN65HVD230_SOP8 to XTL_4_25MHz_3225_1]

## SN65HVD230_SOP8
designator U?, comment SN65HVD230
CAN,  Transceivers, 3.3V (VDD); MANF: Texas Instruments; MANF_P#: SN65HVD230D, SN65HVD230QD; PARAM: -40~85oC; PRICE: 2.3$@MOUSER; PARAM2: 3.3V (VDD); VALUE: SN65HVD230
footprint SO_8
pins: 1 TXD, 2 GND, 3 VCC, 4 RXD, 5 VREF, 6 CANL, 7 CANH, 8 RS

## SPM6530T-2R2M-HZ
designator L?
MF: {'manufacturer': u'TDK Corporation'}; Package: None; MP: SPM6530T-2R2M-HZ; Value: *; Availability: Unavailable; Price: None
footprint IND_SPM6530T-2R2M-HZ
pins: 1, 2

## SS54C
designator D?, comment SS56B
40V 5A Schottky Rectifier; Manufacturer: LGE(鲁光); Manufacturer Part: SS54; Contributor: LCSC; Supplier: LCSC; Supplier Part: C330398; JLCPCB Part Class: Extended Part; spicePre: D; spiceSymbolName: SS54C
footprint SMC_L7.5-W5.8-LS8.3-RD
footprint SMB_L4.6-W3.6-LS5.3-RD
pins: 1 K, 2 A

## STM32H743IIT6
designator U?
Integrated Circuit; Manufacturer_Name: STMicroelectronics; Datasheet Link: https://componentsearchengine.com/Datasheets/1/STM32H743IIT6.pdf; Height: 1.6mm; Manufacturer_Part_Number: STM32H743IIT6; Mouser Part Number: 511-STM32H743IIT6; Mouser Price/Stock: https://www.mouser.co.uk/ProductDetail/STMicroelectronics/STM32H743IIT6?qs=FNcb6ahWXRzE163cq8Rfjg%3D%3D; Arrow Part Number: STM32H743IIT6; Arrow Price/Stock: https://www.arrow.com/en/products/stm32h743iit6/stmicroelectronics?region=nac
footprint QFP50P2600X2600X160-176N
pins: 1 PE2, 2 PE3, 3 PE4, 4 PE5, 5 PE6, 6 VBAT (power), 7 PI8, 8 PC13, 9 PC14-OSC32_IN, 10 PC15-OSC32_OUT, 11 PI9, 12 PI10, 13 PI11, 14 VSS_1 (power), 15 VDD_1 (power), 16 PF0, 17 PF1, 18 PF2, 19 PF3, 20 PF4, 21 PF5, 22 VSS_2 (power), 23 VDD_2 (power), 24 PF6, 25 PF7, 26 PF8, 27 PF9, 28 PF10, 29 PH0-OSC_IN, 30 PH1-OSC_OUT, 31 NRST, 32 PC0, 33 PC1, 34 PC2_C, 35 PC3_C, 36 VDD_3 (power), 37 VSSA (power), 38 VREF+, 39 VDDA (power), 40 PA0-WKUP, 41 PA1, 42 PA2, 43 PH2, 44 PH3, 45 PH4, 46 PH5, 47 PA3, 48 VSS_3 (power), 49 VDD_4 (power), 50 PA4, 51 PA5, 52 PA6, 53 PA7, 54 PC4, 55 PC5, 56 PB0, 57 PB1, 58 PB2, 59 PF11, 60 PF12, 61 VSS_4 (power), 62 VDD_5 (power), 63 PF13, 64 PF14, 65 PF15, 66 PG0, 67 PG1, 68 PE7, 69 PE8, 70 PE9, 71 VSS_5 (power), 72 VDD_6 (power), 73 PE10, 74 PE11, 75 PE12, 76 PE13, 77 PE14, 78 PE15, 79 PB10, 80 PB11, 81 VCAP1 (power), 82 VDD_7 (power), 83 PH6, 84 PH7, 85 PH8, 86 PH9, 87 PH10, 88 PH11, 89 PH12, 90 VSS_6 (power), 91 VDD_8 (power), 92 PB12, 93 PB13, 94 PB14, 95 PB15, 96 PD8, 97 PD9, 98 PD10, 99 PD11, 100 PD12, 101 PD13, 102 VSS_7 (power), 103 VDD_9 (power), 104 PD14, 105 PD15, 106 PG2, 107 PG3, 108 PG4, 109 PG5, 110 PG6, 111 PG7, 112 PG8, 113 VSS_8 (power), 114 VDD33_USB (power), 115 PC6, 116 PC7, 117 PC8, 118 PC9, 119 PA8, 120 PA9, 121 PA10, 122 PA11, 123 PA12, 124 PA13, 125 VCAP2 (power), 126 VSS_9 (power), 127 VDD_10 (power), 128 PH13, 129 PH14, 130 PH15, 131 PI0, 132 PI1, 133 PI2, 134 PI3, 135 VSS_10 (power), 136 VDD_11 (power), 137 PA14, 138 PA15, 139 PC10, 140 PC11, 141 PC12, 142 PD0, 143 PD1, 144 PD2, 145 PD3, 146 PD4, 147 PD5, 148 VSS_11 (power), 149 VDD_12 (power), 150 PD6, 151 PD7, 152 PG9, 153 PG10, 154 PG11, 155 PG12, 156 PG13, 157 PG14, 158 VSS_12 (power), 159 VDD_13 (power), 160 PG15, 161 PB3, 162 PB4, 163 PB5, 164 PB6, 165 PB7, 166 BOOT0, 167 PB8, 168 PB9, 169 PE0, 170 PE1, 171 PDR_ON, 172 VDD_14 (power), 173 PI4, 174 PI5, 175 PI6, 176 PI7

## STMPS2151STR
designator U?
Integrated Circuit; Manufacturer_Name: ST; Datasheet Link: https://www.st.com/resource/en/datasheet/stmps2141.pdf; Height: 1.45mm; Manufacturer_Part_Number: STMPS2151STR
footprint SOT95P280X145-5N
pins: 1 OUT, 2 GND, 3 FAULT, 4 EN, 5 IN

## TEST POINT
designator TP?  (value not drawn)  (no BOM)
Board Qty: 100; PCB Name: Main_PCB
footprint TEST_POINT
pins: 1 TP

## TLV76733DRVR
designator U?
Adjustable- and fixed-output, 1-A, 16-V, positive-voltage low-dropout (LDO) linear regulator; MF: Texas Instruments; SnapEDA_Link: https://www.snapeda.com/parts/TLV76733DRVR/Texas+Instruments/view-part/?ref=snap; Package: WSON-6 Texas Instruments; Value: *; MP: TLV76733DRVR; Check_prices: https://www.snapeda.com/parts/TLV76733DRVR/Texas+Instruments/view-part/?ref=eda
footprint SON65P200X200X80-7N
pins: 1 OUT (out), 2 SNS (in), 3 GND-1 (power), 4 EN (in), 5 GND (power), 6 IN (in), 7 PAD (power)

## TPS54202DDC
designator U?
4.5V to 28V Input, 2-A Output, EMI Friendly / Synchronous Step Down Converter; Part Description: 4.5V to 28V Input, 2A Output, EMI Friendly Synchronous Step Down Converter; Manufacturer: TEXAS INSTRUMENTS; PressFit: No; Bonding: No; Part Number: TPS54202DDC; Component Kind: Standard; Component Type: Standard; Device: TPS54202DDC; Footprint: SOT95P280X100-6N; PackageDescription: SOT23, 0.95mm Pitch; 6 Pin, 1.625mm W X 2.90mm L X 1.00mm H body, IPC Medium Density; Manufacturer Part Number: TPS54202DDC; Pin Count: 5; Case: SOT23-6; Mounted: Yes; Socket: No; SMD: Yes; Sense: No; ComponentHeight: 1.1mm; HelpURL: \\cern.ch\dfs\Applications\Altium\Datasheets\TPS54202.pdf; Author: CERN DEM HF; CreateDate: 6/10/2022; LatestRevisionDate: 6/10/2022
footprint SOT95P280X100-6N (SOT23, 0.95mm pitch; 6 pin, 1.625mm W X 2.90mm L X 1.00mm H body, IPC Medium Density)
pins: 1 GND (power), 2 SW (out), 3 VIN (in), 4 FB (in), 5 EN (in), 6 BOOST (in)

## TXS0108_SSOP20
designator U?, comment TXS0108E
Level Translator, Octal; MANF: Texas Instruments; MANF_P#: TXS0108EPWR; VALUE: TXS0108E
footprint SOG65_20 (PW TSSOP (TI), MO-153-AC (JEDEC), 20Lead, pitch: 0.65mm, 6.5x4.4x1.2mm)
pins: 1 A1 (io), 2 VCCA (power), 3 A2 (io), 4 A3 (io), 5 A4 (io), 6 A5 (io), 7 A6 (io), 8 A7 (io), 9 A8 (io), 10 OE (in), 11 GND (power), 12 B8 (io), 13 B7 (io), 14 B6 (io), 15 B5 (io), 16 B4 (io), 17 B3 (io), 18 B2 (io), 19 VCCB (power), 20 B1 (io)

## USBLC6-4SC6
designator U?
Integrated Circuit; Manufacturer_Name: STMicroelectronics; Datasheet Link: http://www.st.com/st-web-ui/static/active/en/resource/technical/document/datasheet/CD00047494.pdf; Height: 1.45mm; Manufacturer_Part_Number: USBLC6-4SC6; Mouser Part Number: 511-USBLC6-4SC6; Mouser Price/Stock: https://www.mouser.co.uk/ProductDetail/STMicroelectronics/USBLC6-4SC6?qs=k9dH%2Fx4GHJCNdehb8zInZg%3D%3D; Arrow Part Number: USBLC6-4SC6; Arrow Price/Stock: https://www.arrow.com/en/products/usblc6-4sc6/stmicroelectronics?region=europe
footprint SOT95P280X145-6N
pins: 1 I/O1, 2 GND, 3 I/O2, 4 I/O3, 5 VBUS, 6 I/O4

## XL6009
designator U?
Manufacturer: XLSEMI; sourceId: BD9FzR93l; Contributor: GerryChen; Supplier: LCSC; Manufacturer Part: XL6009; spicePre: U; Supplier Part: C15831
footprint TO-263-5
pins: 1 GND, 2 EN, 3 SW, 4 VIN, 5 FB, 6 SW

## XTL_2_32.768_3215A
designator X?, comment XTL_32.768KHz
Crystal, 32.768KHz, 3pF, 20PPM; MANF: ABRACON; MANF_P#: ABS07W-32.768kHz-D-2-T; PARAM: -40~85oC; PARAM2: 3pF, 20PPM; PRICE: 1$; VALUE: XTL_32.768KHz
footprint XTL_2_3215 (ABS07 3.2x1.5mm)
pins: 1 OSC1, 2 OSC2

## XTL_4_25MHz_3225
designator X?, comment XTL_25MHz
CRYSTAL 25.00 MHZ 18pF, 10PPM; MANF: EPSON; DESC: DESCRIPTION; DIST#: MOUSER; PARAM2: PARAM; MANF_P#: TSX-3225 25.0000MF10P-C3; ASSEMBLY: ASSEMBLY; PARAM: 10PPM; PRICE: 0.5$; VALUE: XTL_25MHz
footprint XTL_4_3225 (CRYSTAL OSCILATOR 3.2X2.5mm)
pins: 1, 2, 3 2, 4

## XTL_4_25MHz_3225_1
designator X?, comment 25MHz 32x25
CRYSTAL 25.00 MHZ 18pF, 10PPM; MANF: EPSON; DESC: DESCRIPTION; DIST#: MOUSER; PARAM2: PARAM; MANF_P#: TSX-3225 25.0000MF10P-C3; ASSEMBLY: ASSEMBLY; PARAM: 10PPM; PRICE: 0.5$; VALUE: 25MHz 32x25
footprint XTL_4_3225 (CRYSTAL OSCILATOR 3.2X2.5mm)
pins: 1 XA, 2 GND1, 3 XB, 4 GND2